# Altium integrated library Wuerth Elektronik SMD Power Choke.IntLib: 844 symbols (part 8 of 9)
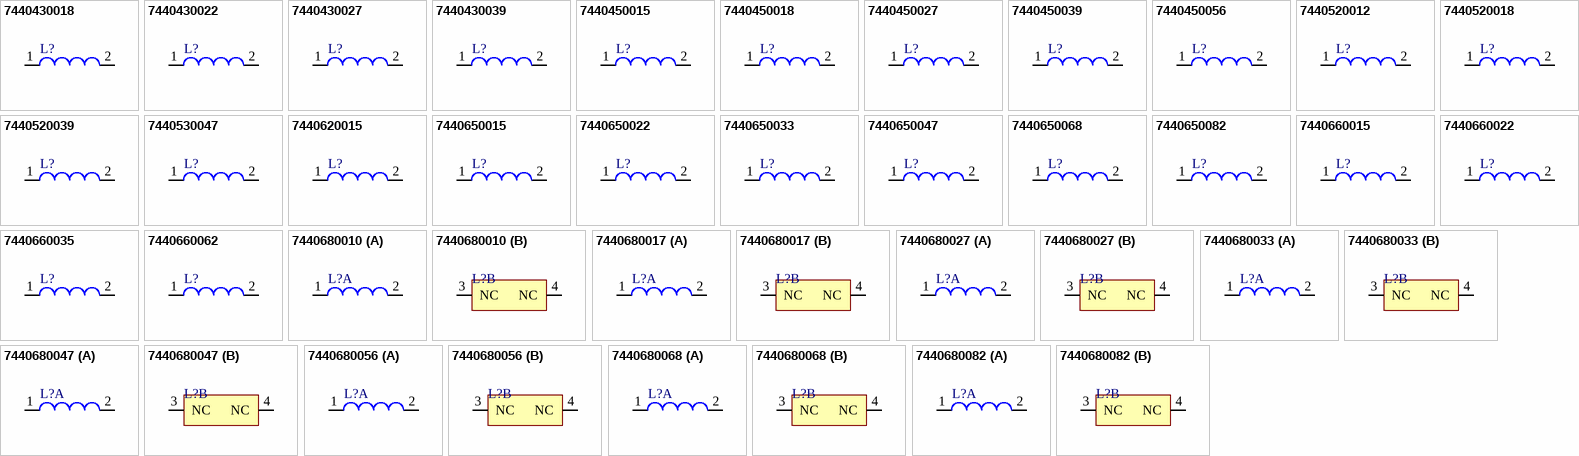
[diagram p29: symbols 7440430018 to 7440680082]

## 7440680056
designator L?
SMD Shielded Tiny Power Inductor WE-TPC, L = 5.60 µH; Inductance: 5.60 µH; DatasheetVersion: ver 1, Apr-2009; PackageVersion: 2009; PackageReference: WE-TPC-8012; PackageDescription: SMD Inductor, 2-Leads, Body 8.0 x 8.0 mm; ComponentLink1Description: Manufacturer URL; ComponentLink1URL: http://www.we-online.com; ComponentLink2Description: Datasheet; ComponentLink2URL: http://www.we-online.de/katalog/media/pdf/7440680056.pdf
footprint WE-TPC-8012 (SMD Inductor, 2-Leads, Body 8.0x8.0x1.2 mm)
part A pins: 1, 2
part B pins: 3 NC, 4 NC

## 7440680068
designator L?
SMD Shielded Tiny Power Inductor WE-TPC, L = 6.80 µH; Inductance: 6.80 µH; DatasheetVersion: ver 1, Apr-2009; PackageVersion: 2009; PackageReference: WE-TPC-8012; PackageDescription: SMD Inductor, 2-Leads, Body 8.0 x 8.0 mm; ComponentLink1Description: Manufacturer URL; ComponentLink1URL: http://www.we-online.com; ComponentLink2Description: Datasheet; ComponentLink2URL: http://www.we-online.de/katalog/media/pdf/7440680068.pdf
footprint WE-TPC-8012 (SMD Inductor, 2-Leads, Body 8.0x8.0x1.2 mm)
part A pins: 1, 2
part B pins: 3 NC, 4 NC

## 7440680082
designator L?
SMD Shielded Tiny Power Inductor WE-TPC, L = 8.20 µH; Inductance: 8.20 µH; DatasheetVersion: ver 1, Apr-2009; PackageVersion: 2009; PackageReference: WE-TPC-8012; PackageDescription: SMD Inductor, 2-Leads, Body 8.0 x 8.0 mm; ComponentLink1Description: Manufacturer URL; ComponentLink1URL: http://www.we-online.com; ComponentLink2Description: Datasheet; ComponentLink2URL: http://www.we-online.de/katalog/media/pdf/7440680082.pdf
footprint WE-TPC-8012 (SMD Inductor, 2-Leads, Body 8.0x8.0x1.2 mm)
part A pins: 1, 2
part B pins: 3 NC, 4 NC

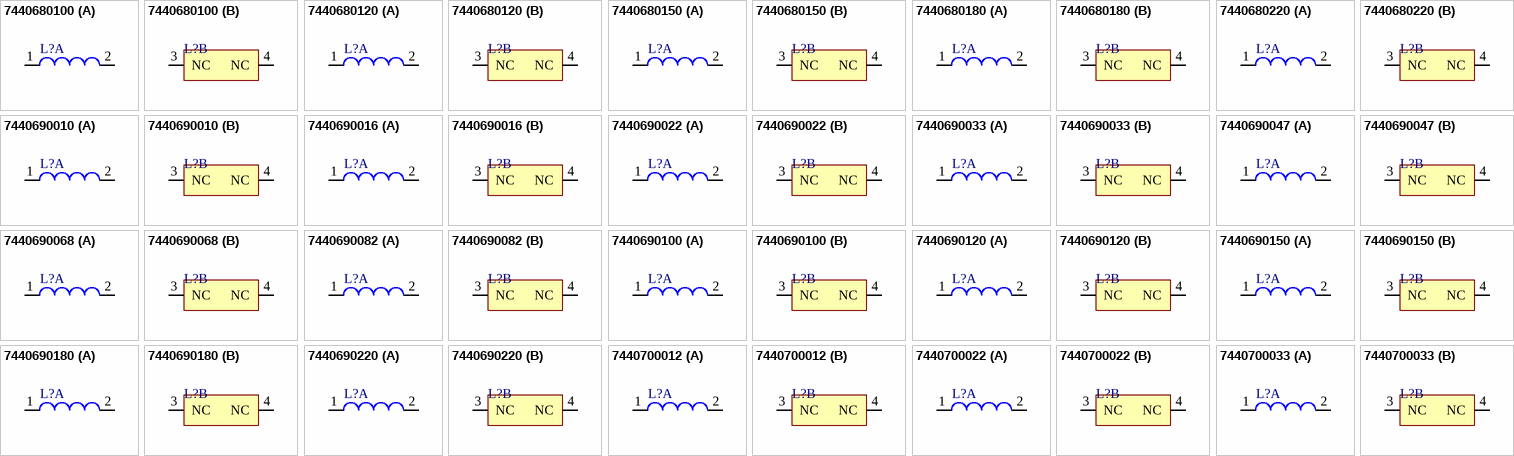
[diagram p17: symbols 7440680100 to 7440700033]

## 7440680100
designator L?
SMD Shielded Tiny Power Inductor WE-TPC, L = 10.0 µH; Inductance: 10.0 µH; DatasheetVersion: ver 1, Apr-2009; PackageVersion: 2009; PackageReference: WE-TPC-8012; PackageDescription: SMD Inductor, 2-Leads, Body 8.0 x 8.0 mm; ComponentLink1Description: Manufacturer URL; ComponentLink1URL: http://www.we-online.com; ComponentLink2Description: Datasheet; ComponentLink2URL: http://www.we-online.de/katalog/media/pdf/7440680100.pdf
footprint WE-TPC-8012 (SMD Inductor, 2-Leads, Body 8.0x8.0x1.2 mm)
part A pins: 1, 2
part B pins: 3 NC, 4 NC

## 7440680120
designator L?
SMD Shielded Tiny Power Inductor WE-TPC, L = 12.0 µH; Inductance: 12.0 µH; DatasheetVersion: ver 1, Apr-2009; PackageVersion: 2009; PackageReference: WE-TPC-8012; PackageDescription: SMD Inductor, 2-Leads, Body 8.0 x 8.0 mm; ComponentLink1Description: Manufacturer URL; ComponentLink1URL: http://www.we-online.com; ComponentLink2Description: Datasheet; ComponentLink2URL: http://www.we-online.de/katalog/media/pdf/7440680120.pdf
footprint WE-TPC-8012 (SMD Inductor, 2-Leads, Body 8.0x8.0x1.2 mm)
part A pins: 1, 2
part B pins: 3 NC, 4 NC

## 7440680150
designator L?
SMD Shielded Tiny Power Inductor WE-TPC, L = 15.0 µH; Inductance: 15.0 µH; DatasheetVersion: ver 1, Apr-2009; PackageVersion: 2009; PackageReference: WE-TPC-8012; PackageDescription: SMD Inductor, 2-Leads, Body 8.0 x 8.0 mm; ComponentLink1Description: Manufacturer URL; ComponentLink1URL: http://www.we-online.com; ComponentLink2Description: Datasheet; ComponentLink2URL: http://www.we-online.de/katalog/media/pdf/7440680150.pdf
footprint WE-TPC-8012 (SMD Inductor, 2-Leads, Body 8.0x8.0x1.2 mm)
part A pins: 1, 2
part B pins: 3 NC, 4 NC

## 7440680180
designator L?
SMD Shielded Tiny Power Inductor WE-TPC, L = 18.0 µH; Inductance: 18.0 µH; DatasheetVersion: ver 1, Apr-2009; PackageVersion: 2009; PackageReference: WE-TPC-8012; PackageDescription: SMD Inductor, 2-Leads, Body 8.0 x 8.0 mm; ComponentLink1Description: Manufacturer URL; ComponentLink1URL: http://www.we-online.com; ComponentLink2Description: Datasheet; ComponentLink2URL: http://www.we-online.de/katalog/media/pdf/7440680180.pdf
footprint WE-TPC-8012 (SMD Inductor, 2-Leads, Body 8.0x8.0x1.2 mm)
part A pins: 1, 2
part B pins: 3 NC, 4 NC

## 7440680220
designator L?
SMD Shielded Tiny Power Inductor WE-TPC, L = 22.0 µH; Inductance: 22.0 µH; DatasheetVersion: ver 1, Apr-2009; PackageVersion: 2009; PackageReference: WE-TPC-8012; PackageDescription: SMD Inductor, 2-Leads, Body 8.0 x 8.0 mm; ComponentLink1Description: Manufacturer URL; ComponentLink1URL: http://www.we-online.com; ComponentLink2Description: Datasheet; ComponentLink2URL: http://www.we-online.de/katalog/media/pdf/7440680220.pdf
footprint WE-TPC-8012 (SMD Inductor, 2-Leads, Body 8.0x8.0x1.2 mm)
part A pins: 1, 2
part B pins: 3 NC, 4 NC

## 7440690010
designator L?
SMD Shielded Tiny Power Inductor WE-TPC, L = 1.00 µH; Inductance: 1.00 µH; DatasheetVersion: ver 1, Apr-2009; PackageVersion: 2009; PackageReference: WE-TPC-8015; PackageDescription: SMD Inductor, 2-Leads, Body 8.0 x 8.0 mm; ComponentLink1Description: Manufacturer URL; ComponentLink1URL: http://www.we-online.com; ComponentLink2Description: Datasheet; ComponentLink2URL: http://www.we-online.de/katalog/media/pdf/7440690010.pdf
footprint WE-TPC-8015 (SMD Inductor, 2-Leads, Body 8.0x8.0x1.5 mm)
part A pins: 1, 2
part B pins: 3 NC, 4 NC

## 7440690016
designator L?
SMD Shielded Tiny Power Inductor WE-TPC, L = 1.60 µH; Inductance: 1.60 µH; DatasheetVersion: ver 1, Apr-2009; PackageVersion: 2009; PackageReference: WE-TPC-8015; PackageDescription: SMD Inductor, 2-Leads, Body 8.0 x 8.0 mm; ComponentLink1Description: Manufacturer URL; ComponentLink1URL: http://www.we-online.com; ComponentLink2Description: Datasheet; ComponentLink2URL: http://www.we-online.de/katalog/media/pdf/7440690016.pdf
footprint WE-TPC-8015 (SMD Inductor, 2-Leads, Body 8.0x8.0x1.5 mm)
part A pins: 1, 2
part B pins: 3 NC, 4 NC

## 7440690022
designator L?
SMD Shielded Tiny Power Inductor WE-TPC, L = 2.20 µH; Inductance: 2.20 µH; DatasheetVersion: ver 1, Apr-2009; PackageVersion: 2009; PackageReference: WE-TPC-8015; PackageDescription: SMD Inductor, 2-Leads, Body 8.0 x 8.0 mm; ComponentLink1Description: Manufacturer URL; ComponentLink1URL: http://www.we-online.com; ComponentLink2Description: Datasheet; ComponentLink2URL: http://www.we-online.de/katalog/media/pdf/7440690022.pdf
footprint WE-TPC-8015 (SMD Inductor, 2-Leads, Body 8.0x8.0x1.5 mm)
part A pins: 1, 2
part B pins: 3 NC, 4 NC

## 7440690033
designator L?
SMD Shielded Tiny Power Inductor WE-TPC, L = 3.30 µH; Inductance: 3.30 µH; DatasheetVersion: ver 1, Apr-2009; PackageVersion: 2009; PackageReference: WE-TPC-8015; PackageDescription: SMD Inductor, 2-Leads, Body 8.0 x 8.0 mm; ComponentLink1Description: Manufacturer URL; ComponentLink1URL: http://www.we-online.com; ComponentLink2Description: Datasheet; ComponentLink2URL: http://www.we-online.de/katalog/media/pdf/7440690033.pdf
footprint WE-TPC-8015 (SMD Inductor, 2-Leads, Body 8.0x8.0x1.5 mm)
part A pins: 1, 2
part B pins: 3 NC, 4 NC

## 7440690047
designator L?
SMD Shielded Tiny Power Inductor WE-TPC, L = 4.70 µH; Inductance: 4.70 µH; DatasheetVersion: ver 1, Apr-2009; PackageVersion: 2009; PackageReference: WE-TPC-8015; PackageDescription: SMD Inductor, 2-Leads, Body 8.0 x 8.0 mm; ComponentLink1Description: Manufacturer URL; ComponentLink1URL: http://www.we-online.com; ComponentLink2Description: Datasheet; ComponentLink2URL: http://www.we-online.de/katalog/media/pdf/7440690047.pdf
footprint WE-TPC-8015 (SMD Inductor, 2-Leads, Body 8.0x8.0x1.5 mm)
part A pins: 1, 2
part B pins: 3 NC, 4 NC

## 7440690068
designator L?
SMD Shielded Tiny Power Inductor WE-TPC, L = 6.80 µH; Inductance: 6.80 µH; DatasheetVersion: ver 1, Apr-2009; PackageVersion: 2009; PackageReference: WE-TPC-8015; PackageDescription: SMD Inductor, 2-Leads, Body 8.0 x 8.0 mm; ComponentLink1Description: Manufacturer URL; ComponentLink1URL: http://www.we-online.com; ComponentLink2Description: Datasheet; ComponentLink2URL: http://www.we-online.de/katalog/media/pdf/7440690068.pdf
footprint WE-TPC-8015 (SMD Inductor, 2-Leads, Body 8.0x8.0x1.5 mm)
part A pins: 1, 2
part B pins: 3 NC, 4 NC

## 7440690082
designator L?
SMD Shielded Tiny Power Inductor WE-TPC, L = 8.20 µH; Inductance: 8.20 µH; DatasheetVersion: ver 1, Apr-2009; PackageVersion: 2009; PackageReference: WE-TPC-8015; PackageDescription: SMD Inductor, 2-Leads, Body 8.0 x 8.0 mm; ComponentLink1Description: Manufacturer URL; ComponentLink1URL: http://www.we-online.com; ComponentLink2Description: Datasheet; ComponentLink2URL: http://www.we-online.de/katalog/media/pdf/7440690082.pdf
footprint WE-TPC-8015 (SMD Inductor, 2-Leads, Body 8.0x8.0x1.5 mm)
part A pins: 1, 2
part B pins: 3 NC, 4 NC

## 7440690100
designator L?
SMD Shielded Tiny Power Inductor WE-TPC, L = 10.0 µH; Inductance: 10.0 µH; DatasheetVersion: ver 1, Apr-2009; PackageVersion: 2009; PackageReference: WE-TPC-8015; PackageDescription: SMD Inductor, 2-Leads, Body 8.0 x 8.0 mm; ComponentLink1Description: Manufacturer URL; ComponentLink1URL: http://www.we-online.com; ComponentLink2Description: Datasheet; ComponentLink2URL: http://www.we-online.de/katalog/media/pdf/7440690100.pdf
footprint WE-TPC-8015 (SMD Inductor, 2-Leads, Body 8.0x8.0x1.5 mm)
part A pins: 1, 2
part B pins: 3 NC, 4 NC

## 7440690120
designator L?
SMD Shielded Tiny Power Inductor WE-TPC, L = 12.0 µH; Inductance: 12.0 µH; DatasheetVersion: ver 1, Apr-2009; PackageVersion: 2009; PackageReference: WE-TPC-8015; PackageDescription: SMD Inductor, 2-Leads, Body 8.0 x 8.0 mm; ComponentLink1Description: Manufacturer URL; ComponentLink1URL: http://www.we-online.com; ComponentLink2Description: Datasheet; ComponentLink2URL: http://www.we-online.de/katalog/media/pdf/7440690120.pdf
footprint WE-TPC-8015 (SMD Inductor, 2-Leads, Body 8.0x8.0x1.5 mm)
part A pins: 1, 2
part B pins: 3 NC, 4 NC

## 7440690150
designator L?
SMD Shielded Tiny Power Inductor WE-TPC, L = 15.0 µH; Inductance: 15.0 µH; DatasheetVersion: ver 1, Apr-2009; PackageVersion: 2009; PackageReference: WE-TPC-8015; PackageDescription: SMD Inductor, 2-Leads, Body 8.0 x 8.0 mm; ComponentLink1Description: Manufacturer URL; ComponentLink1URL: http://www.we-online.com; ComponentLink2Description: Datasheet; ComponentLink2URL: http://www.we-online.de/katalog/media/pdf/7440690150.pdf
footprint WE-TPC-8015 (SMD Inductor, 2-Leads, Body 8.0x8.0x1.5 mm)
part A pins: 1, 2
part B pins: 3 NC, 4 NC

## 7440690180
designator L?
SMD Shielded Tiny Power Inductor WE-TPC, L = 18.0 µH; Inductance: 18.0 µH; DatasheetVersion: ver 1, Apr-2009; PackageVersion: 2009; PackageReference: WE-TPC-8015; PackageDescription: SMD Inductor, 2-Leads, Body 8.0 x 8.0 mm; ComponentLink1Description: Manufacturer URL; ComponentLink1URL: http://www.we-online.com; ComponentLink2Description: Datasheet; ComponentLink2URL: http://www.we-online.de/katalog/media/pdf/7440690180.pdf
footprint WE-TPC-8015 (SMD Inductor, 2-Leads, Body 8.0x8.0x1.5 mm)
part A pins: 1, 2
part B pins: 3 NC, 4 NC

## 7440690220
designator L?
SMD Shielded Tiny Power Inductor WE-TPC, L = 22.0 µH; Inductance: 22.0 µH; DatasheetVersion: ver 1, Apr-2009; PackageVersion: 2009; PackageReference: WE-TPC-8015; PackageDescription: SMD Inductor, 2-Leads, Body 8.0 x 8.0 mm; ComponentLink1Description: Manufacturer URL; ComponentLink1URL: http://www.we-online.com; ComponentLink2Description: Datasheet; ComponentLink2URL: http://www.we-online.de/katalog/media/pdf/7440690220.pdf
footprint WE-TPC-8015 (SMD Inductor, 2-Leads, Body 8.0x8.0x1.5 mm)
part A pins: 1, 2
part B pins: 3 NC, 4 NC

## 7440700012
designator L?
SMD Shielded Tiny Power Inductor WE-TPC, L = 1.20 µH; Inductance: 1.20 µH; DatasheetVersion: ver 4, Apr-2009; PackageVersion: 2009; PackageReference: WE-TPC-8020-XMH; PackageDescription: SMD Inductor, 2-Leads, Body 8.0 x 8.0 mm; ComponentLink1Description: Manufacturer URL; ComponentLink1URL: http://www.we-online.com; ComponentLink2Description: Datasheet; ComponentLink2URL: http://www.we-online.de/katalog/media/pdf/7440700012.pdf
footprint WE-TPC-8020-XMH (SMD Inductor, 2-Leads, Body 8.0x8.0x2.0 mm)
part A pins: 1, 2
part B pins: 3 NC, 4 NC

## 7440700022
designator L?
SMD Shielded Tiny Power Inductor WE-TPC, L = 2.20 µH; Inductance: 2.20 µH; DatasheetVersion: ver 4, Apr-2009; PackageVersion: 2009; PackageReference: WE-TPC-8020-XMH; PackageDescription: SMD Inductor, 2-Leads, Body 8.0 x 8.0 mm; ComponentLink1Description: Manufacturer URL; ComponentLink1URL: http://www.we-online.com; ComponentLink2Description: Datasheet; ComponentLink2URL: http://www.we-online.de/katalog/media/pdf/7440700022.pdf
footprint WE-TPC-8020-XMH (SMD Inductor, 2-Leads, Body 8.0x8.0x2.0 mm)
part A pins: 1, 2
part B pins: 3 NC, 4 NC

## 7440700033
designator L?
SMD Shielded Tiny Power Inductor WE-TPC, L = 3.30 µH; Inductance: 3.30 µH; DatasheetVersion: ver 4, Apr-2009; PackageVersion: 2009; PackageReference: WE-TPC-8020-XMH; PackageDescription: SMD Inductor, 2-Leads, Body 8.0 x 8.0 mm; ComponentLink1Description: Manufacturer URL; ComponentLink1URL: http://www.we-online.com; ComponentLink2Description: Datasheet; ComponentLink2URL: http://www.we-online.de/katalog/media/pdf/7440700033.pdf
footprint WE-TPC-8020-XMH (SMD Inductor, 2-Leads, Body 8.0x8.0x2.0 mm)
part A pins: 1, 2
part B pins: 3 NC, 4 NC

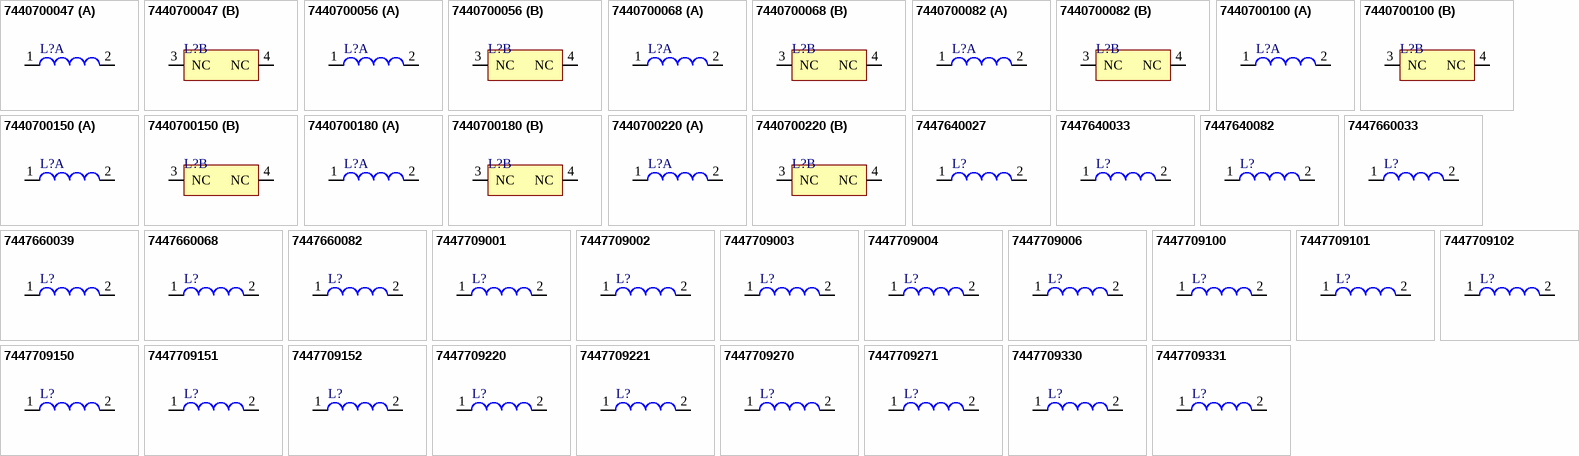
[diagram p18: symbols 7440700047 to 7447709331]

## 7440700047
designator L?
SMD Shielded Tiny Power Inductor WE-TPC, L = 4.70 µH; Inductance: 4.70 µH; DatasheetVersion: ver 4, Apr-2009; PackageVersion: 2009; PackageReference: WE-TPC-8020-XMH; PackageDescription: SMD Inductor, 2-Leads, Body 8.0 x 8.0 mm; ComponentLink1Description: Manufacturer URL; ComponentLink1URL: http://www.we-online.com; ComponentLink2Description: Datasheet; ComponentLink2URL: http://www.we-online.de/katalog/media/pdf/7440700047.pdf
footprint WE-TPC-8020-XMH (SMD Inductor, 2-Leads, Body 8.0x8.0x2.0 mm)
part A pins: 1, 2
part B pins: 3 NC, 4 NC

## 7440700056
designator L?
SMD Shielded Tiny Power Inductor WE-TPC, L = 5.60 µH; Inductance: 5.60 µH; DatasheetVersion: ver 4, Apr-2009; PackageVersion: 2009; PackageReference: WE-TPC-8020-XMH; PackageDescription: SMD Inductor, 2-Leads, Body 8.0 x 8.0 mm; ComponentLink1Description: Manufacturer URL; ComponentLink1URL: http://www.we-online.com; ComponentLink2Description: Datasheet; ComponentLink2URL: http://www.we-online.de/katalog/media/pdf/7440700056.pdf
footprint WE-TPC-8020-XMH (SMD Inductor, 2-Leads, Body 8.0x8.0x2.0 mm)
part A pins: 1, 2
part B pins: 3 NC, 4 NC

## 7440700068
designator L?
SMD Shielded Tiny Power Inductor WE-TPC, L = 6.80 µH; Inductance: 6.80 µH; DatasheetVersion: ver 4, Apr-2009; PackageVersion: 2009; PackageReference: WE-TPC-8020-XMH; PackageDescription: SMD Inductor, 2-Leads, Body 8.0 x 8.0 mm; ComponentLink1Description: Manufacturer URL; ComponentLink1URL: http://www.we-online.com; ComponentLink2Description: Datasheet; ComponentLink2URL: http://www.we-online.de/katalog/media/pdf/7440700068.pdf
footprint WE-TPC-8020-XMH (SMD Inductor, 2-Leads, Body 8.0x8.0x2.0 mm)
part A pins: 1, 2
part B pins: 3 NC, 4 NC

## 7440700082
designator L?
SMD Shielded Tiny Power Inductor WE-TPC, L = 8.20 µH; Inductance: 8.20 µH; DatasheetVersion: ver 4, Apr-2009; PackageVersion: 2009; PackageReference: WE-TPC-8020-XMH; PackageDescription: SMD Inductor, 2-Leads, Body 8.0 x 8.0 mm; ComponentLink1Description: Manufacturer URL; ComponentLink1URL: http://www.we-online.com; ComponentLink2Description: Datasheet; ComponentLink2URL: http://www.we-online.de/katalog/media/pdf/7440700082.pdf
footprint WE-TPC-8020-XMH (SMD Inductor, 2-Leads, Body 8.0x8.0x2.0 mm)
part A pins: 1, 2
part B pins: 3 NC, 4 NC

## 7440700100
designator L?
SMD Shielded Tiny Power Inductor WE-TPC, L = 10.0 µH; Inductance: 10.0 µH; DatasheetVersion: ver 4, Apr-2009; PackageVersion: 2009; PackageReference: WE-TPC-8020-XMH; PackageDescription: SMD Inductor, 2-Leads, Body 8.0 x 8.0 mm; ComponentLink1Description: Manufacturer URL; ComponentLink1URL: http://www.we-online.com; ComponentLink2Description: Datasheet; ComponentLink2URL: http://www.we-online.de/katalog/media/pdf/7440700100.pdf
footprint WE-TPC-8020-XMH (SMD Inductor, 2-Leads, Body 8.0x8.0x2.0 mm)
part A pins: 1, 2
part B pins: 3 NC, 4 NC

## 7440700150
designator L?
SMD Shielded Tiny Power Inductor WE-TPC, L = 15.0 µH; Inductance: 15.0 µH; DatasheetVersion: ver 4, Apr-2009; PackageVersion: 2009; PackageReference: WE-TPC-8020-XMH; PackageDescription: SMD Inductor, 2-Leads, Body 8.0 x 8.0 mm; ComponentLink1Description: Manufacturer URL; ComponentLink1URL: http://www.we-online.com; ComponentLink2Description: Datasheet; ComponentLink2URL: http://www.we-online.de/katalog/media/pdf/7440700150.pdf
footprint WE-TPC-8020-XMH (SMD Inductor, 2-Leads, Body 8.0x8.0x2.0 mm)
part A pins: 1, 2
part B pins: 3 NC, 4 NC

## 7440700180
designator L?
SMD Shielded Tiny Power Inductor WE-TPC, L = 18.0 µH; Inductance: 18.0 µH; DatasheetVersion: ver 4, Apr-2009; PackageVersion: 2009; PackageReference: WE-TPC-8020-XMH; PackageDescription: SMD Inductor, 2-Leads, Body 8.0 x 8.0 mm; ComponentLink1Description: Manufacturer URL; ComponentLink1URL: http://www.we-online.com; ComponentLink2Description: Datasheet; ComponentLink2URL: http://www.we-online.de/katalog/media/pdf/7440700180.pdf
footprint WE-TPC-8020-XMH (SMD Inductor, 2-Leads, Body 8.0x8.0x2.0 mm)
part A pins: 1, 2
part B pins: 3 NC, 4 NC

## 7440700220
designator L?
SMD Shielded Tiny Power Inductor WE-TPC, L = 22.0 µH; Inductance: 22.0 µH; DatasheetVersion: ver 4, Apr-2009; PackageVersion: 2009; PackageReference: WE-TPC-8020-XMH; PackageDescription: SMD Inductor, 2-Leads, Body 8.0 x 8.0 mm; ComponentLink1Description: Manufacturer URL; ComponentLink1URL: http://www.we-online.com; ComponentLink2Description: Datasheet; ComponentLink2URL: http://www.we-online.de/katalog/media/pdf/7440700220.pdf
footprint WE-TPC-8020-XMH (SMD Inductor, 2-Leads, Body 8.0x8.0x2.0 mm)
part A pins: 1, 2
part B pins: 3 NC, 4 NC

## 7447640027
designator L?
SMD Wire Wound Inductor WE-GF, L = 0.27 µH; Inductance: 0.27 µH; DatasheetVersion: ver 4, Oct-2004; PackageVersion: 2004; PackageReference: WE-GF-M; PackageDescription: Molded Inductor, 2-Leads, Body 2.9 x 2.5 mm; ComponentLink1Description: Manufacturer URL; ComponentLink1URL: http://www.we-online.com; ComponentLink2Description: Datasheet; ComponentLink2URL: http://www.we-online.de/katalog/media/pdf/7447640027.pdf
footprint WE-GF-M (Molded Inductor, 2-Leads, Body 2.9x2.5x2.4 mm)
pins: 1, 2

## 7447640033
designator L?
SMD Wire Wound Inductor WE-GF, L = 0.33 µH; Inductance: 0.33 µH; DatasheetVersion: ver 4, Oct-2004; PackageVersion: 2004; PackageReference: WE-GF-M; PackageDescription: Molded Inductor, 2-Leads, Body 2.9 x 2.5 mm; ComponentLink1Description: Manufacturer URL; ComponentLink1URL: http://www.we-online.com; ComponentLink2Description: Datasheet; ComponentLink2URL: http://www.we-online.de/katalog/media/pdf/7447640033.pdf
footprint WE-GF-M (Molded Inductor, 2-Leads, Body 2.9x2.5x2.4 mm)
pins: 1, 2

## 7447640082
designator L?
SMD Wire Wound Inductor WE-GF, L = 0.82 µH; Inductance: 0.82 µH; DatasheetVersion: ver 4, Oct-2004; PackageVersion: 2004; PackageReference: WE-GF-M; PackageDescription: Molded Inductor, 2-Leads, Body 2.9 x 2.5 mm; ComponentLink1Description: Manufacturer URL; ComponentLink1URL: http://www.we-online.com; ComponentLink2Description: Datasheet; ComponentLink2URL: http://www.we-online.de/katalog/media/pdf/7447640082.pdf
footprint WE-GF-M (Molded Inductor, 2-Leads, Body 2.9x2.5x2.4 mm)
pins: 1, 2

## 7447660033
designator L?
SMD Wire Wound Inductor WE-GF, L = 0.33 µH; Inductance: 0.33 µH; DatasheetVersion: ver 4, Oct-2004; PackageVersion: 2004; PackageReference: WE-GF-L; PackageDescription: Molded Inductor, 2-Leads, Body 4.2 x 3.2 mm; ComponentLink1Description: Manufacturer URL; ComponentLink1URL: http://www.we-online.com; ComponentLink2Description: Datasheet; ComponentLink2URL: http://www.we-online.de/katalog/media/pdf/7447660033.pdf
footprint WE-GF-L (Molded Inductor, 2-Leads, Body 4.2x3.2x3.6 mm)
pins: 1, 2

## 7447660039
designator L?
SMD Wire Wound Inductor WE-GF, L = 0.39 µH; Inductance: 0.39 µH; DatasheetVersion: ver 4, Oct-2004; PackageVersion: 2004; PackageReference: WE-GF-L; PackageDescription: Molded Inductor, 2-Leads, Body 4.2 x 3.2 mm; ComponentLink1Description: Manufacturer URL; ComponentLink1URL: http://www.we-online.com; ComponentLink2Description: Datasheet; ComponentLink2URL: http://www.we-online.de/katalog/media/pdf/7447660039.pdf
footprint WE-GF-L (Molded Inductor, 2-Leads, Body 4.2x3.2x3.6 mm)
pins: 1, 2

## 7447660068
designator L?
SMD Wire Wound Inductor WE-GF, L = 0.68 µH; Inductance: 0.68 µH; DatasheetVersion: ver 4, Oct-2004; PackageVersion: 2004; PackageReference: WE-GF-L; PackageDescription: Molded Inductor, 2-Leads, Body 4.2 x 3.2 mm; ComponentLink1Description: Manufacturer URL; ComponentLink1URL: http://www.we-online.com; ComponentLink2Description: Datasheet; ComponentLink2URL: http://www.we-online.de/katalog/media/pdf/7447660068.pdf
footprint WE-GF-L (Molded Inductor, 2-Leads, Body 4.2x3.2x3.6 mm)
pins: 1, 2

## 7447660082
designator L?
SMD Wire Wound Inductor WE-GF, L = 0.82 µH; Inductance: 0.82 µH; DatasheetVersion: ver 4, Oct-2004; PackageVersion: 2004; PackageReference: WE-GF-L; PackageDescription: Molded Inductor, 2-Leads, Body 4.2 x 3.2 mm; ComponentLink1Description: Manufacturer URL; ComponentLink1URL: http://www.we-online.com; ComponentLink2Description: Datasheet; ComponentLink2URL: http://www.we-online.de/katalog/media/pdf/7447660082.pdf
footprint WE-GF-L (Molded Inductor, 2-Leads, Body 4.2x3.2x3.6 mm)
pins: 1, 2

## 7447709001
designator L?
SMD-Shielded Power Inductor WE-PD, L = 1.00 µH; Inductance: 1.00 µH; DatasheetVersion: ver 1, Oct-2004; PackageVersion: 2004; PackageReference: WE-PD-XXL; PackageDescription: SMD Inductor, 2-Leads, Body 12.0 x 12.0 mm; ComponentLink1Description: Manufacturer URL; ComponentLink1URL: http://www.we-online.com; ComponentLink2Description: Datasheet; ComponentLink2URL: http://www.we-online.de/katalog/media/pdf/7447709001.pdf
footprint WE-PD-XXL (SMD Inductor, 2-Leads, Body 12.0x12.0x10.0 mm)
pins: 1, 2

## 7447709002
designator L?
SMD-Shielded Power Inductor WE-PD, L = 2.20 µH; Inductance: 2.20 µH; DatasheetVersion: ver 1, Oct-2004; PackageVersion: 2004; PackageReference: WE-PD-XXL; PackageDescription: SMD Inductor, 2-Leads, Body 12.0 x 12.0 mm; ComponentLink1Description: Manufacturer URL; ComponentLink1URL: http://www.we-online.com; ComponentLink2Description: Datasheet; ComponentLink2URL: http://www.we-online.de/katalog/media/pdf/7447709002.pdf
footprint WE-PD-XXL (SMD Inductor, 2-Leads, Body 12.0x12.0x10.0 mm)
pins: 1, 2

## 7447709003
designator L?
SMD-Shielded Power Inductor WE-PD, L = 3.50 µH; Inductance: 3.50 µH; DatasheetVersion: ver 1, Oct-2004; PackageVersion: 2004; PackageReference: WE-PD-XXL; PackageDescription: SMD Inductor, 2-Leads, Body 12.0 x 12.0 mm; ComponentLink1Description: Manufacturer URL; ComponentLink1URL: http://www.we-online.com; ComponentLink2Description: Datasheet; ComponentLink2URL: http://www.we-online.de/katalog/media/pdf/7447709003.pdf
footprint WE-PD-XXL (SMD Inductor, 2-Leads, Body 12.0x12.0x10.0 mm)
pins: 1, 2

## 7447709004
designator L?
SMD-Shielded Power Inductor WE-PD, L = 4.70 µH; Inductance: 4.70 µH; DatasheetVersion: ver 1, Oct-2004; PackageVersion: 2004; PackageReference: WE-PD-XXL; PackageDescription: SMD Inductor, 2-Leads, Body 12.0 x 12.0 mm; ComponentLink1Description: Manufacturer URL; ComponentLink1URL: http://www.we-online.com; ComponentLink2Description: Datasheet; ComponentLink2URL: http://www.we-online.de/katalog/media/pdf/7447709004.pdf
footprint WE-PD-XXL (SMD Inductor, 2-Leads, Body 12.0x12.0x10.0 mm)
pins: 1, 2

## 7447709006
designator L?
SMD-Shielded Power Inductor WE-PD, L = 6.80 µH; Inductance: 6.80 µH; DatasheetVersion: ver 1, Oct-2004; PackageVersion: 2004; PackageReference: WE-PD-XXL; PackageDescription: SMD Inductor, 2-Leads, Body 12.0 x 12.0 mm; ComponentLink1Description: Manufacturer URL; ComponentLink1URL: http://www.we-online.com; ComponentLink2Description: Datasheet; ComponentLink2URL: http://www.we-online.de/katalog/media/pdf/7447709006.pdf
footprint WE-PD-XXL (SMD Inductor, 2-Leads, Body 12.0x12.0x10.0 mm)
pins: 1, 2

## 7447709100
designator L?
SMD-Shielded Power Inductor WE-PD, L = 10.0 µH; Inductance: 10.0 µH; DatasheetVersion: ver 1, Oct-2004; PackageVersion: 2004; PackageReference: WE-PD-XXL; PackageDescription: SMD Inductor, 2-Leads, Body 12.0 x 12.0 mm; ComponentLink1Description: Manufacturer URL; ComponentLink1URL: http://www.we-online.com; ComponentLink2Description: Datasheet; ComponentLink2URL: http://www.we-online.de/katalog/media/pdf/7447709100.pdf
footprint WE-PD-XXL (SMD Inductor, 2-Leads, Body 12.0x12.0x10.0 mm)
pins: 1, 2

## 7447709101
designator L?
SMD-Shielded Power Inductor WE-PD, L = 100 µH; Inductance: 100 µH; DatasheetVersion: ver 1, Oct-2004; PackageVersion: 2004; PackageReference: WE-PD-XXL; PackageDescription: SMD Inductor, 2-Leads, Body 12.0 x 12.0 mm; ComponentLink1Description: Manufacturer URL; ComponentLink1URL: http://www.we-online.com; ComponentLink2Description: Datasheet; ComponentLink2URL: http://www.we-online.de/katalog/media/pdf/7447709101.pdf
footprint WE-PD-XXL (SMD Inductor, 2-Leads, Body 12.0x12.0x10.0 mm)
pins: 1, 2

## 7447709102
designator L?
SMD-Shielded Power Inductor WE-PD, L = 1000 µH; Inductance: 1000 µH; DatasheetVersion: ver 1, Aug-2005; PackageVersion: 2004; PackageReference: WE-PD-XXL; PackageDescription: SMD Inductor, 2-Leads, Body 12.0 x 12.0 mm; ComponentLink1Description: Manufacturer URL; ComponentLink1URL: http://www.we-online.com; ComponentLink2Description: Datasheet; ComponentLink2URL: http://www.we-online.de/katalog/media/pdf/7447709102.pdf
footprint WE-PD-XXL (SMD Inductor, 2-Leads, Body 12.0x12.0x10.0 mm)
pins: 1, 2

## 7447709150
designator L?
SMD-Shielded Power Inductor WE-PD, L = 15.0 µH; Inductance: 15.0 µH; DatasheetVersion: ver 4, Oct-2006; PackageVersion: 2004; PackageReference: WE-PD-XXL; PackageDescription: SMD Inductor, 2-Leads, Body 12.0 x 12.0 mm; ComponentLink1Description: Manufacturer URL; ComponentLink1URL: http://www.we-online.com; ComponentLink2Description: Datasheet; ComponentLink2URL: http://www.we-online.de/katalog/media/pdf/7447709150.pdf
footprint WE-PD-XXL (SMD Inductor, 2-Leads, Body 12.0x12.0x10.0 mm)
pins: 1, 2

## 7447709151
designator L?
SMD-Shielded Power Inductor WE-PD, L = 150 µH; Inductance: 150 µH; DatasheetVersion: ver 1, Oct-2004; PackageVersion: 2004; PackageReference: WE-PD-XXL; PackageDescription: SMD Inductor, 2-Leads, Body 12.0 x 12.0 mm; ComponentLink1Description: Manufacturer URL; ComponentLink1URL: http://www.we-online.com; ComponentLink2Description: Datasheet; ComponentLink2URL: http://www.we-online.de/katalog/media/pdf/7447709151.pdf
footprint WE-PD-XXL (SMD Inductor, 2-Leads, Body 12.0x12.0x10.0 mm)
pins: 1, 2

## 7447709152
designator L?
SMD-Shielded Power Inductor WE-PD, L = 1500 µH; Inductance: 1500 µH; DatasheetVersion: ver 1, Aug-2006; PackageVersion: 2004; PackageReference: WE-PD-XXL; PackageDescription: SMD Inductor, 2-Leads, Body 12.0 x 12.0 mm; ComponentLink1Description: Manufacturer URL; ComponentLink1URL: http://www.we-online.com; ComponentLink2Description: Datasheet; ComponentLink2URL: http://www.we-online.de/katalog/media/pdf/7447709152.pdf
footprint WE-PD-XXL (SMD Inductor, 2-Leads, Body 12.0x12.0x10.0 mm)
pins: 1, 2

## 7447709220
designator L?
SMD-Shielded Power Inductor WE-PD, L = 22.0 µH; Inductance: 22.0 µH; DatasheetVersion: ver 1, Oct-2004; PackageVersion: 2004; PackageReference: WE-PD-XXL; PackageDescription: SMD Inductor, 2-Leads, Body 12.0 x 12.0 mm; ComponentLink1Description: Manufacturer URL; ComponentLink1URL: http://www.we-online.com; ComponentLink2Description: Datasheet; ComponentLink2URL: http://www.we-online.de/katalog/media/pdf/7447709220.pdf
footprint WE-PD-XXL (SMD Inductor, 2-Leads, Body 12.0x12.0x10.0 mm)
pins: 1, 2

## 7447709221
designator L?
SMD-Shielded Power Inductor WE-PD, L = 220 µH; Inductance: 220 µH; DatasheetVersion: ver 1, Oct-2004; PackageVersion: 2004; PackageReference: WE-PD-XXL; PackageDescription: SMD Inductor, 2-Leads, Body 12.0 x 12.0 mm; ComponentLink1Description: Manufacturer URL; ComponentLink1URL: http://www.we-online.com; ComponentLink2Description: Datasheet; ComponentLink2URL: http://www.we-online.de/katalog/media/pdf/7447709221.pdf
footprint WE-PD-XXL (SMD Inductor, 2-Leads, Body 12.0x12.0x10.0 mm)
pins: 1, 2

## 7447709270
designator L?
SMD-Shielded Power Inductor WE-PD, L = 27.0 µH; Inductance: 27.0 µH; DatasheetVersion: ver 1, Feb-2006; PackageVersion: 2004; PackageReference: WE-PD-XXL; PackageDescription: SMD Inductor, 2-Leads, Body 12.0 x 12.0 mm; ComponentLink1Description: Manufacturer URL; ComponentLink1URL: http://www.we-online.com; ComponentLink2Description: Datasheet; ComponentLink2URL: http://www.we-online.de/katalog/media/pdf/7447709270.pdf
footprint WE-PD-XXL (SMD Inductor, 2-Leads, Body 12.0x12.0x10.0 mm)
pins: 1, 2

## 7447709271
designator L?
SMD-Shielded Power Inductor WE-PD, L = 270 µH; Inductance: 270 µH; DatasheetVersion: ver 1, Oct-2004; PackageVersion: 2004; PackageReference: WE-PD-XXL; PackageDescription: SMD Inductor, 2-Leads, Body 12.0 x 12.0 mm; ComponentLink1Description: Manufacturer URL; ComponentLink1URL: http://www.we-online.com; ComponentLink2Description: Datasheet; ComponentLink2URL: http://www.we-online.de/katalog/media/pdf/7447709271.pdf
footprint WE-PD-XXL (SMD Inductor, 2-Leads, Body 12.0x12.0x10.0 mm)
pins: 1, 2

## 7447709330
designator L?
SMD-Shielded Power Inductor WE-PD, L = 33.0 µH; Inductance: 33.0 µH; DatasheetVersion: ver 1, Oct-2004; PackageVersion: 2004; PackageReference: WE-PD-XXL; PackageDescription: SMD Inductor, 2-Leads, Body 12.0 x 12.0 mm; ComponentLink1Description: Manufacturer URL; ComponentLink1URL: http://www.we-online.com; ComponentLink2Description: Datasheet; ComponentLink2URL: http://www.we-online.de/katalog/media/pdf/7447709330.pdf
footprint WE-PD-XXL (SMD Inductor, 2-Leads, Body 12.0x12.0x10.0 mm)
pins: 1, 2

## 7447709331
designator L?
SMD-Shielded Power Inductor WE-PD, L = 330 µH; Inductance: 330 µH; DatasheetVersion: ver 1, Oct-2004; PackageVersion: 2004; PackageReference: WE-PD-XXL; PackageDescription: SMD Inductor, 2-Leads, Body 12.0 x 12.0 mm; ComponentLink1Description: Manufacturer URL; ComponentLink1URL: http://www.we-online.com; ComponentLink2Description: Datasheet; ComponentLink2URL: http://www.we-online.de/katalog/media/pdf/7447709331.pdf
footprint WE-PD-XXL (SMD Inductor, 2-Leads, Body 12.0x12.0x10.0 mm)
pins: 1, 2

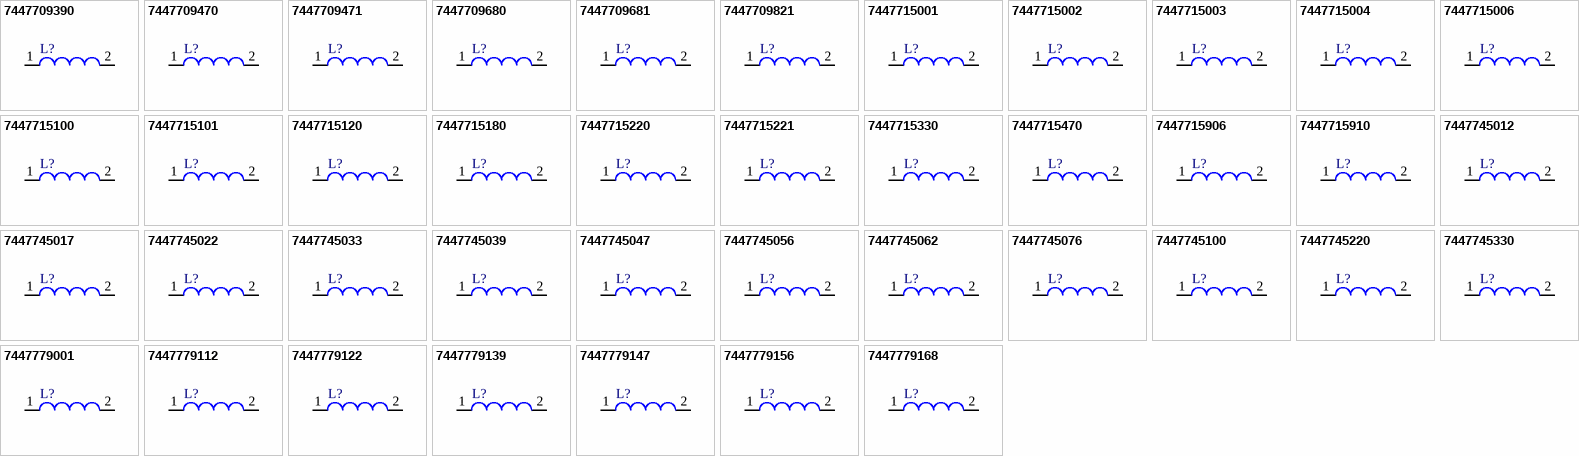
[diagram p19: symbols 7447709390 to 7447779168]

## 7447709390
designator L?
SMD-Shielded Power Inductor WE-PD, L = 39.0 µH; Inductance: 39.0 µH; DatasheetVersion: ver 2, Jun-2006; PackageVersion: 2004; PackageReference: WE-PD-XXL; PackageDescription: SMD Inductor, 2-Leads, Body 12.0 x 12.0 mm; ComponentLink1Description: Manufacturer URL; ComponentLink1URL: http://www.we-online.com; ComponentLink2Description: Datasheet; ComponentLink2URL: http://www.we-online.de/katalog/media/pdf/7447709390.pdf
footprint WE-PD-XXL (SMD Inductor, 2-Leads, Body 12.0x12.0x10.0 mm)
pins: 1, 2

## 7447709470
designator L?
SMD-Shielded Power Inductor WE-PD, L = 47.0 µH; Inductance: 47.0 µH; DatasheetVersion: ver 1, Oct-2004; PackageVersion: 2004; PackageReference: WE-PD-XXL; PackageDescription: SMD Inductor, 2-Leads, Body 12.0 x 12.0 mm; ComponentLink1Description: Manufacturer URL; ComponentLink1URL: http://www.we-online.com; ComponentLink2Description: Datasheet; ComponentLink2URL: http://www.we-online.de/katalog/media/pdf/7447709470.pdf
footprint WE-PD-XXL (SMD Inductor, 2-Leads, Body 12.0x12.0x10.0 mm)
pins: 1, 2

## 7447709471
designator L?
SMD-Shielded Power Inductor WE-PD, L = 470 µH; Inductance: 470 µH; DatasheetVersion: ver 1, Oct-2004; PackageVersion: 2004; PackageReference: WE-PD-XXL; PackageDescription: SMD Inductor, 2-Leads, Body 12.0 x 12.0 mm; ComponentLink1Description: Manufacturer URL; ComponentLink1URL: http://www.we-online.com; ComponentLink2Description: Datasheet; ComponentLink2URL: http://www.we-online.de/katalog/media/pdf/7447709471.pdf
footprint WE-PD-XXL (SMD Inductor, 2-Leads, Body 12.0x12.0x10.0 mm)
pins: 1, 2

## 7447709680
designator L?
SMD-Shielded Power Inductor WE-PD, L = 68.0 µH; Inductance: 68.0 µH; DatasheetVersion: ver 1, Oct-2004; PackageVersion: 2004; PackageReference: WE-PD-XXL; PackageDescription: SMD Inductor, 2-Leads, Body 12.0 x 12.0 mm; ComponentLink1Description: Manufacturer URL; ComponentLink1URL: http://www.we-online.com; ComponentLink2Description: Datasheet; ComponentLink2URL: http://www.we-online.de/katalog/media/pdf/7447709680.pdf
footprint WE-PD-XXL (SMD Inductor, 2-Leads, Body 12.0x12.0x10.0 mm)
pins: 1, 2

## 7447709681
designator L?
SMD-Shielded Power Inductor WE-PD, L = 680 µH; Inductance: 680 µH; DatasheetVersion: ver 1, Oct-2007; PackageVersion: 2004; PackageReference: WE-PD-XXL; PackageDescription: SMD Inductor, 2-Leads, Body 12.0 x 12.0 mm; ComponentLink1Description: Manufacturer URL; ComponentLink1URL: http://www.we-online.com; ComponentLink2Description: Datasheet; ComponentLink2URL: http://www.we-online.de/katalog/media/pdf/7447709681.pdf
footprint WE-PD-XXL (SMD Inductor, 2-Leads, Body 12.0x12.0x10.0 mm)
pins: 1, 2

## 7447709821
designator L?
SMD-Shielded Power Inductor WE-PD, L = 820 µH; Inductance: 820 µH; DatasheetVersion: ver 1, Jan-2007; PackageVersion: 2004; PackageReference: WE-PD-XXL; PackageDescription: SMD Inductor, 2-Leads, Body 12.0 x 12.0 mm; ComponentLink1Description: Manufacturer URL; ComponentLink1URL: http://www.we-online.com; ComponentLink2Description: Datasheet; ComponentLink2URL: http://www.we-online.de/katalog/media/pdf/7447709821.pdf
footprint WE-PD-XXL (SMD Inductor, 2-Leads, Body 12.0x12.0x10.0 mm)
pins: 1, 2

## 7447715001
designator L?
SMD-Shielded Power Inductor WE-PD, L = 1.80 µH; Inductance: 1.80 µH; DatasheetVersion: ver 1, Nov-2008; PackageVersion: 2008; PackageReference: WE-PD-LS; PackageDescription: SMD Inductor, 2-Leads, Body 12.0 x 12.0 mm; ComponentLink1Description: Manufacturer URL; ComponentLink1URL: http://www.we-online.com; ComponentLink2Description: Datasheet; ComponentLink2URL: http://www.we-online.de/katalog/media/pdf/7447715001.pdf
footprint WE-PD-LS (SMD Inductor, 2-Leads, Body 12.0x12.0x4.5 mm)
pins: 1, 2

## 7447715002
designator L?
SMD-Shielded Power Inductor WE-PD, L = 2.50 µH; Inductance: 2.50 µH; DatasheetVersion: ver 1, Nov-2008; PackageVersion: 2008; PackageReference: WE-PD-LS; PackageDescription: SMD Inductor, 2-Leads, Body 12.0 x 12.0 mm; ComponentLink1Description: Manufacturer URL; ComponentLink1URL: http://www.we-online.com; ComponentLink2Description: Datasheet; ComponentLink2URL: http://www.we-online.de/katalog/media/pdf/7447715002.pdf
footprint WE-PD-LS (SMD Inductor, 2-Leads, Body 12.0x12.0x4.5 mm)
pins: 1, 2

## 7447715003
designator L?
SMD-Shielded Power Inductor WE-PD, L = 3.30 µH; Inductance: 3.30 µH; DatasheetVersion: ver 1, Nov-2008; PackageVersion: 2008; PackageReference: WE-PD-LS; PackageDescription: SMD Inductor, 2-Leads, Body 12.0 x 12.0 mm; ComponentLink1Description: Manufacturer URL; ComponentLink1URL: http://www.we-online.com; ComponentLink2Description: Datasheet; ComponentLink2URL: http://www.we-online.de/katalog/media/pdf/7447715003.pdf
footprint WE-PD-LS (SMD Inductor, 2-Leads, Body 12.0x12.0x4.5 mm)
pins: 1, 2

## 7447715004
designator L?
SMD-Shielded Power Inductor WE-PD, L = 4.70 µH; Inductance: 4.70 µH; DatasheetVersion: ver 1, Nov-2008; PackageVersion: 2008; PackageReference: WE-PD-LS; PackageDescription: SMD Inductor, 2-Leads, Body 12.0 x 12.0 mm; ComponentLink1Description: Manufacturer URL; ComponentLink1URL: http://www.we-online.com; ComponentLink2Description: Datasheet; ComponentLink2URL: http://www.we-online.de/katalog/media/pdf/7447715004.pdf
footprint WE-PD-LS (SMD Inductor, 2-Leads, Body 12.0x12.0x4.5 mm)
pins: 1, 2

## 7447715006
designator L?
SMD-Shielded Power Inductor WE-PD, L = 6.80 µH; Inductance: 6.80 µH; DatasheetVersion: ver 1, Nov-2008; PackageVersion: 2008; PackageReference: WE-PD-LS; PackageDescription: SMD Inductor, 2-Leads, Body 12.0 x 12.0 mm; ComponentLink1Description: Manufacturer URL; ComponentLink1URL: http://www.we-online.com; ComponentLink2Description: Datasheet; ComponentLink2URL: http://www.we-online.de/katalog/media/pdf/7447715006.pdf
footprint WE-PD-LS (SMD Inductor, 2-Leads, Body 12.0x12.0x4.5 mm)
pins: 1, 2

## 7447715100
designator L?
SMD-Shielded Power Inductor WE-PD, L = 10.0 µH; Inductance: 10.0 µH; DatasheetVersion: ver 1, Nov-2008; PackageVersion: 2008; PackageReference: WE-PD-LS; PackageDescription: SMD Inductor, 2-Leads, Body 12.0 x 12.0 mm; ComponentLink1Description: Manufacturer URL; ComponentLink1URL: http://www.we-online.com; ComponentLink2Description: Datasheet; ComponentLink2URL: http://www.we-online.de/katalog/media/pdf/7447715100.pdf
footprint WE-PD-LS (SMD Inductor, 2-Leads, Body 12.0x12.0x4.5 mm)
pins: 1, 2

## 7447715101
designator L?
SMD-Shielded Power Inductor WE-PD, L = 100 µH; Inductance: 100 µH; DatasheetVersion: ver 1, Nov-2008; PackageVersion: 2008; PackageReference: WE-PD-LS; PackageDescription: SMD Inductor, 2-Leads, Body 12.0 x 12.0 mm; ComponentLink1Description: Manufacturer URL; ComponentLink1URL: http://www.we-online.com; ComponentLink2Description: Datasheet; ComponentLink2URL: http://www.we-online.de/katalog/media/pdf/7447715101.pdf
footprint WE-PD-LS (SMD Inductor, 2-Leads, Body 12.0x12.0x4.5 mm)
pins: 1, 2

## 7447715120
designator L?
SMD-Shielded Power Inductor WE-PD, L = 12.0 µH; Inductance: 12.0 µH; DatasheetVersion: ver 1, Nov-2008; PackageVersion: 2008; PackageReference: WE-PD-LS; PackageDescription: SMD Inductor, 2-Leads, Body 12.0 x 12.0 mm; ComponentLink1Description: Manufacturer URL; ComponentLink1URL: http://www.we-online.com; ComponentLink2Description: Datasheet; ComponentLink2URL: http://www.we-online.de/katalog/media/pdf/7447715120.pdf
footprint WE-PD-LS (SMD Inductor, 2-Leads, Body 12.0x12.0x4.5 mm)
pins: 1, 2

## 7447715180
designator L?
SMD-Shielded Power Inductor WE-PD, L = 18.0 µH; Inductance: 18.0 µH; DatasheetVersion: ver 1, Nov-2008; PackageVersion: 2008; PackageReference: WE-PD-LS; PackageDescription: SMD Inductor, 2-Leads, Body 12.0 x 12.0 mm; ComponentLink1Description: Manufacturer URL; ComponentLink1URL: http://www.we-online.com; ComponentLink2Description: Datasheet; ComponentLink2URL: http://www.we-online.de/katalog/media/pdf/7447715180.pdf
footprint WE-PD-LS (SMD Inductor, 2-Leads, Body 12.0x12.0x4.5 mm)
pins: 1, 2

## 7447715220
designator L?
SMD-Shielded Power Inductor WE-PD, L = 22.0 µH; Inductance: 22.0 µH; DatasheetVersion: ver 1, Nov-2008; PackageVersion: 2008; PackageReference: WE-PD-LS; PackageDescription: SMD Inductor, 2-Leads, Body 12.0 x 12.0 mm; ComponentLink1Description: Manufacturer URL; ComponentLink1URL: http://www.we-online.com; ComponentLink2Description: Datasheet; ComponentLink2URL: http://www.we-online.de/katalog/media/pdf/7447715220.pdf
footprint WE-PD-LS (SMD Inductor, 2-Leads, Body 12.0x12.0x4.5 mm)
pins: 1, 2

## 7447715221
designator L?
SMD-Shielded Power Inductor WE-PD, L = 220 µH; Inductance: 220 µH; DatasheetVersion: ver 1, Nov-2008; PackageVersion: 2008; PackageReference: WE-PD-LS; PackageDescription: SMD Inductor, 2-Leads, Body 12.0 x 12.0 mm; ComponentLink1Description: Manufacturer URL; ComponentLink1URL: http://www.we-online.com; ComponentLink2Description: Datasheet; ComponentLink2URL: http://www.we-online.de/katalog/media/pdf/7447715221.pdf
footprint WE-PD-LS (SMD Inductor, 2-Leads, Body 12.0x12.0x4.5 mm)
pins: 1, 2

## 7447715330
designator L?
SMD-Shielded Power Inductor WE-PD, L = 33.0 µH; Inductance: 33.0 µH; DatasheetVersion: ver 1, Nov-2008; PackageVersion: 2008; PackageReference: WE-PD-LS; PackageDescription: SMD Inductor, 2-Leads, Body 12.0 x 12.0 mm; ComponentLink1Description: Manufacturer URL; ComponentLink1URL: http://www.we-online.com; ComponentLink2Description: Datasheet; ComponentLink2URL: http://www.we-online.de/katalog/media/pdf/7447715330.pdf
footprint WE-PD-LS (SMD Inductor, 2-Leads, Body 12.0x12.0x4.5 mm)
pins: 1, 2

## 7447715470
designator L?
SMD-Shielded Power Inductor WE-PD, L = 47.0 µH; Inductance: 47.0 µH; DatasheetVersion: ver 1, Nov-2008; PackageVersion: 2008; PackageReference: WE-PD-LS; PackageDescription: SMD Inductor, 2-Leads, Body 12.0 x 12.0 mm; ComponentLink1Description: Manufacturer URL; ComponentLink1URL: http://www.we-online.com; ComponentLink2Description: Datasheet; ComponentLink2URL: http://www.we-online.de/katalog/media/pdf/7447715470.pdf
footprint WE-PD-LS (SMD Inductor, 2-Leads, Body 12.0x12.0x4.5 mm)
pins: 1, 2

## 7447715906
designator L?
SMD-Shielded Power Inductor WE-PD, L = 0.60 µH; Inductance: 0.60 µH; DatasheetVersion: ver 1, Apr-2009; PackageVersion: 2008; PackageReference: WE-PD-LS; PackageDescription: SMD Inductor, 2-Leads, Body 12.0 x 12.0 mm; ComponentLink1Description: Manufacturer URL; ComponentLink1URL: http://www.we-online.com; ComponentLink2Description: Datasheet; ComponentLink2URL: http://www.we-online.de/katalog/media/pdf/7447715906.pdf
footprint WE-PD-LS (SMD Inductor, 2-Leads, Body 12.0x12.0x4.5 mm)
pins: 1, 2

## 7447715910
designator L?
SMD-Shielded Power Inductor WE-PD, L = 1.00 µH; Inductance: 1.00 µH; DatasheetVersion: ver 1, Apr-2009; PackageVersion: 2008; PackageReference: WE-PD-LS; PackageDescription: SMD Inductor, 2-Leads, Body 12.0 x 12.0 mm; ComponentLink1Description: Manufacturer URL; ComponentLink1URL: http://www.we-online.com; ComponentLink2Description: Datasheet; ComponentLink2URL: http://www.we-online.de/katalog/media/pdf/7447715910.pdf
footprint WE-PD-LS (SMD Inductor, 2-Leads, Body 12.0x12.0x4.5 mm)
pins: 1, 2

## 7447745012
designator L?
SMD Power Inductor WE-PD2, L = 1.20 µH; Inductance: 1.20 µH; DatasheetVersion: ver 2, May-2009; PackageVersion: 2009; PackageReference: WE-PD2-MS; PackageDescription: SMD Inductor, 2-Leads, Body 5.8 x 5.2 mm; ComponentLink1Description: Manufacturer URL; ComponentLink1URL: http://www.we-online.com; ComponentLink2Description: Datasheet; ComponentLink2URL: http://www.we-online.de/katalog/media/pdf/7447745012.pdf
footprint WE-PD2-MS (SMD Inductor, 2-Leads, Body 5.8x5.2x2.3 mm)
pins: 1, 2

## 7447745017
designator L?
SMD Power Inductor WE-PD2, L = 1.70 µH; Inductance: 1.70 µH; DatasheetVersion: ver 2, May-2009; PackageVersion: 2009; PackageReference: WE-PD2-MS; PackageDescription: SMD Inductor, 2-Leads, Body 5.8 x 5.2 mm; ComponentLink1Description: Manufacturer URL; ComponentLink1URL: http://www.we-online.com; ComponentLink2Description: Datasheet; ComponentLink2URL: http://www.we-online.de/katalog/media/pdf/7447745017.pdf
footprint WE-PD2-MS (SMD Inductor, 2-Leads, Body 5.8x5.2x2.3 mm)
pins: 1, 2

## 7447745022
designator L?
SMD Power Inductor WE-PD2, L = 2.20 µH; Inductance: 2.20 µH; DatasheetVersion: ver 2, May-2009; PackageVersion: 2009; PackageReference: WE-PD2-MS; PackageDescription: SMD Inductor, 2-Leads, Body 5.8 x 5.2 mm; ComponentLink1Description: Manufacturer URL; ComponentLink1URL: http://www.we-online.com; ComponentLink2Description: Datasheet; ComponentLink2URL: http://www.we-online.de/katalog/media/pdf/7447745022.pdf
footprint WE-PD2-MS (SMD Inductor, 2-Leads, Body 5.8x5.2x2.3 mm)
pins: 1, 2

## 7447745033
designator L?
SMD Power Inductor WE-PD2, L = 3.30 µH; Inductance: 3.30 µH; DatasheetVersion: ver 2, May-2009; PackageVersion: 2009; PackageReference: WE-PD2-MS; PackageDescription: SMD Inductor, 2-Leads, Body 5.8 x 5.2 mm; ComponentLink1Description: Manufacturer URL; ComponentLink1URL: http://www.we-online.com; ComponentLink2Description: Datasheet; ComponentLink2URL: http://www.we-online.de/katalog/media/pdf/7447745033.pdf
footprint WE-PD2-MS (SMD Inductor, 2-Leads, Body 5.8x5.2x2.3 mm)
pins: 1, 2

## 7447745039
designator L?
SMD Power Inductor WE-PD2, L = 3.90 µH; Inductance: 3.90 µH; DatasheetVersion: ver 2, May-2009; PackageVersion: 2009; PackageReference: WE-PD2-MS; PackageDescription: SMD Inductor, 2-Leads, Body 5.8 x 5.2 mm; ComponentLink1Description: Manufacturer URL; ComponentLink1URL: http://www.we-online.com; ComponentLink2Description: Datasheet; ComponentLink2URL: http://www.we-online.de/katalog/media/pdf/7447745039.pdf
footprint WE-PD2-MS (SMD Inductor, 2-Leads, Body 5.8x5.2x2.3 mm)
pins: 1, 2

## 7447745047
designator L?
SMD Power Inductor WE-PD2, L = 4.70 µH; Inductance: 4.70 µH; DatasheetVersion: ver 2, May-2009; PackageVersion: 2009; PackageReference: WE-PD2-MS; PackageDescription: SMD Inductor, 2-Leads, Body 5.8 x 5.2 mm; ComponentLink1Description: Manufacturer URL; ComponentLink1URL: http://www.we-online.com; ComponentLink2Description: Datasheet; ComponentLink2URL: http://www.we-online.de/katalog/media/pdf/7447745047.pdf
footprint WE-PD2-MS (SMD Inductor, 2-Leads, Body 5.8x5.2x2.3 mm)
pins: 1, 2

## 7447745056
designator L?
SMD Power Inductor WE-PD2, L = 5.60 µH; Inductance: 5.60 µH; DatasheetVersion: ver 2, May-2009; PackageVersion: 2009; PackageReference: WE-PD2-MS; PackageDescription: SMD Inductor, 2-Leads, Body 5.8 x 5.2 mm; ComponentLink1Description: Manufacturer URL; ComponentLink1URL: http://www.we-online.com; ComponentLink2Description: Datasheet; ComponentLink2URL: http://www.we-online.de/katalog/media/pdf/7447745056.pdf
footprint WE-PD2-MS (SMD Inductor, 2-Leads, Body 5.8x5.2x2.3 mm)
pins: 1, 2

## 7447745062
designator L?
SMD Power Inductor WE-PD2, L = 6.20 µH; Inductance: 6.20 µH; DatasheetVersion: ver 2, May-2009; PackageVersion: 2009; PackageReference: WE-PD2-MS; PackageDescription: SMD Inductor, 2-Leads, Body 5.8 x 5.2 mm; ComponentLink1Description: Manufacturer URL; ComponentLink1URL: http://www.we-online.com; ComponentLink2Description: Datasheet; ComponentLink2URL: http://www.we-online.de/katalog/media/pdf/7447745062.pdf
footprint WE-PD2-MS (SMD Inductor, 2-Leads, Body 5.8x5.2x2.3 mm)
pins: 1, 2

## 7447745076
designator L?
SMD Power Inductor WE-PD2, L = 7.60 µH; Inductance: 7.60 µH; DatasheetVersion: ver 2, May-2009; PackageVersion: 2009; PackageReference: WE-PD2-MS; PackageDescription: SMD Inductor, 2-Leads, Body 5.8 x 5.2 mm; ComponentLink1Description: Manufacturer URL; ComponentLink1URL: http://www.we-online.com; ComponentLink2Description: Datasheet; ComponentLink2URL: http://www.we-online.de/katalog/media/pdf/7447745076.pdf
footprint WE-PD2-MS (SMD Inductor, 2-Leads, Body 5.8x5.2x2.3 mm)
pins: 1, 2

## 7447745100
designator L?
SMD Power Inductor WE-PD2, L = 10.0 µH; Inductance: 10.0 µH; DatasheetVersion: ver 2, May-2009; PackageVersion: 2009; PackageReference: WE-PD2-MS; PackageDescription: SMD Inductor, 2-Leads, Body 5.8 x 5.2 mm; ComponentLink1Description: Manufacturer URL; ComponentLink1URL: http://www.we-online.com; ComponentLink2Description: Datasheet; ComponentLink2URL: http://www.we-online.de/katalog/media/pdf/7447745100.pdf
footprint WE-PD2-MS (SMD Inductor, 2-Leads, Body 5.8x5.2x2.3 mm)
pins: 1, 2

## 7447745220
designator L?
SMD Power Inductor WE-PD2, L = 22.0 µH; Inductance: 22.0 µH; DatasheetVersion: ver 3, Jun-2009; PackageVersion: 2009; PackageReference: WE-PD2-MS; PackageDescription: SMD Inductor, 2-Leads, Body 5.8 x 5.2 mm; ComponentLink1Description: Manufacturer URL; ComponentLink1URL: http://www.we-online.com; ComponentLink2Description: Datasheet; ComponentLink2URL: http://www.we-online.de/katalog/media/pdf/7447745220.pdf
footprint WE-PD2-MS (SMD Inductor, 2-Leads, Body 5.8x5.2x2.3 mm)
pins: 1, 2

## 7447745330
designator L?
SMD Power Inductor WE-PD2, L = 33.0 µH; Inductance: 33.0 µH; DatasheetVersion: ver 2, May-2009; PackageVersion: 2009; PackageReference: WE-PD2-MS; PackageDescription: SMD Inductor, 2-Leads, Body 5.8 x 5.2 mm; ComponentLink1Description: Manufacturer URL; ComponentLink1URL: http://www.we-online.com; ComponentLink2Description: Datasheet; ComponentLink2URL: http://www.we-online.de/katalog/media/pdf/7447745330.pdf
footprint WE-PD2-MS (SMD Inductor, 2-Leads, Body 5.8x5.2x2.3 mm)
pins: 1, 2

## 7447779001
designator L?
SMD-Shielded Power Inductor WE-PD, L = 1.00 µH; Inductance: 1.00 µH; DatasheetVersion: ver 10, Jan-2008; PackageVersion: 2008; PackageReference: WE-PD-M-PB; PackageDescription: SMD Inductor, 2-Leads, Body 7.3 x 7.3 mm; ComponentLink1Description: Manufacturer URL; ComponentLink1URL: http://www.we-online.com; ComponentLink2Description: Datasheet; ComponentLink2URL: http://www.we-online.de/katalog/media/pdf/7447779001.pdf
footprint WE-PD-M-PB (SMD Inductor, 2-Leads, Body 7.3x7.3x4.5 mm)
pins: 1, 2

## 7447779112
designator L?
SMD-Shielded Power Inductor WE-PD, L = 12.0 µH; Inductance: 12.0 µH; DatasheetVersion: ver 10, Jan-2008; PackageVersion: 2008; PackageReference: WE-PD-M-PB; PackageDescription: SMD Inductor, 2-Leads, Body 7.3 x 7.3 mm; ComponentLink1Description: Manufacturer URL; ComponentLink1URL: http://www.we-online.com; ComponentLink2Description: Datasheet; ComponentLink2URL: http://www.we-online.de/katalog/media/pdf/7447779112.pdf
footprint WE-PD-M-PB (SMD Inductor, 2-Leads, Body 7.3x7.3x4.5 mm)
pins: 1, 2

## 7447779122
designator L?
SMD-Shielded Power Inductor WE-PD, L = 22.0 µH; Inductance: 22.0 µH; DatasheetVersion: ver 10, Jan-2008; PackageVersion: 2008; PackageReference: WE-PD-M-PB; PackageDescription: SMD Inductor, 2-Leads, Body 7.3 x 7.3 mm; ComponentLink1Description: Manufacturer URL; ComponentLink1URL: http://www.we-online.com; ComponentLink2Description: Datasheet; ComponentLink2URL: http://www.we-online.de/katalog/media/pdf/7447779122.pdf
footprint WE-PD-M-PB (SMD Inductor, 2-Leads, Body 7.3x7.3x4.5 mm)
pins: 1, 2

## 7447779139
designator L?
SMD-Shielded Power Inductor WE-PD, L = 39.0 µH; Inductance: 39.0 µH; DatasheetVersion: ver 10, Jan-2008; PackageVersion: 2008; PackageReference: WE-PD-M-PB; PackageDescription: SMD Inductor, 2-Leads, Body 7.3 x 7.3 mm; ComponentLink1Description: Manufacturer URL; ComponentLink1URL: http://www.we-online.com; ComponentLink2Description: Datasheet; ComponentLink2URL: http://www.we-online.de/katalog/media/pdf/7447779139.pdf
footprint WE-PD-M-PB (SMD Inductor, 2-Leads, Body 7.3x7.3x4.5 mm)
pins: 1, 2